# EAGLE library part FLACHBAND_2X20_SOLDER (library ++Bedrahtet)
Flachbandkabelstecker fein 2 X 20
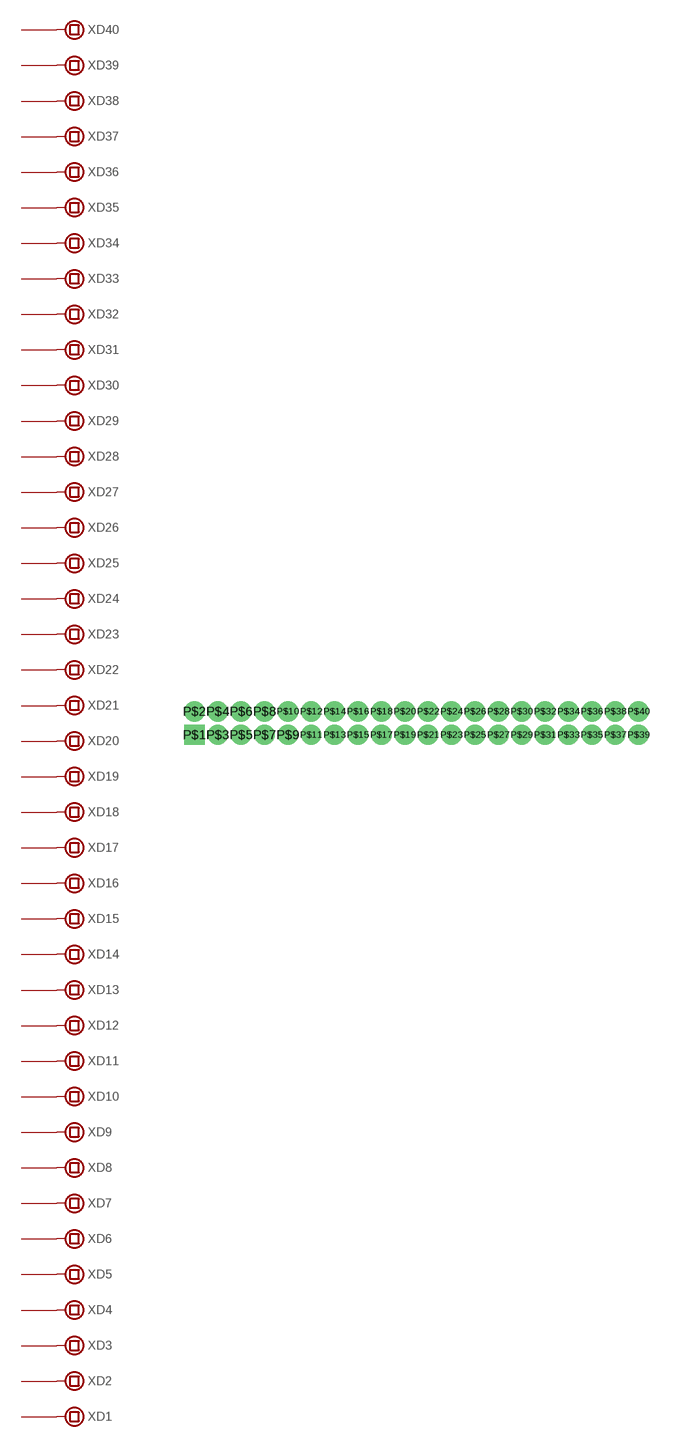
[diagram p8: symbol with the pads of FLACHBAND_2X20_SOLDER; footprint FLACHBAND_2X20_SOLDER]

Designator prefix X; gates D1=D D2=D D3=D D4=D D5=D D6=D D7=D D8=D D9=D D10=D D11=D D12=D D13=D D14=D D15=D D16=D D17=D D18=D D19=D D20=D D21=D D22=D D23=D D24=D D25=D D26=D D27=D D28=D D29=D D30=D D31=D D32=D D33=D D34=D D35=D D36=D D37=D D38=D D39=D D40=D

## FLACHBAND_2X20_SOLDER  [FLACHBAND_2X20_SOLDER]
P$1  D1:D
P$2  D2:D
P$3  D3:D
P$4  D4:D
P$5  D5:D
P$6  D6:D
P$7  D7:D
P$8  D8:D
P$9  D9:D
P$10  D10:D
P$11  D11:D
P$12  D12:D
P$13  D13:D
P$14  D14:D
P$15  D15:D
P$16  D16:D
P$17  D17:D
P$18  D18:D
P$19  D19:D
P$20  D20:D
P$21  D21:D
P$22  D22:D
P$23  D23:D
P$24  D24:D
P$25  D25:D
P$26  D26:D
P$27  D27:D
P$28  D28:D
P$29  D29:D
P$30  D30:D
P$31  D31:D
P$32  D32:D
P$33  D33:D
P$34  D34:D
P$35  D35:D
P$36  D36:D
P$37  D37:D
P$38  D38:D
P$39  D39:D
P$40  D40:D

## Footprint FLACHBAND_2X20_SOLDER (pad centres in mm)
drill 0.6 square: P$1 0,0
drill 0.6: P$2 0,1.27; P$3 1.27,0; P$4 1.27,1.27; P$5 2.54,0; P$6 2.54,1.27; P$7 3.81,0; P$8 3.81,1.27; P$9 5.08,0; P$10 5.08,1.27; P$11 6.35,0; P$12 6.35,1.27; P$13 7.62,0; P$14 7.62,1.27; P$15 8.89,0; P$16 8.89,1.27; P$17 10.16,0; P$18 10.16,1.27; P$19 11.43,0; P$20 11.43,1.27; P$21 12.7,0; P$22 12.7,1.27; P$23 13.97,0; P$24 13.97,1.27; P$25 15.24,0; P$26 15.24,1.27; P$27 16.51,0; P$28 16.51,1.27; P$29 17.78,0; P$30 17.78,1.27; P$31 19.05,0; P$32 19.05,1.27; P$33 20.32,0; P$34 20.32,1.27; P$35 21.59,0; P$36 21.59,1.27; P$37 22.86,0; P$38 22.86,1.27; P$39 24.13,0; P$40 24.13,1.27